# EAGLE library part CMOD_A7 (library FPGA_FOC_lib)
15T and 35T
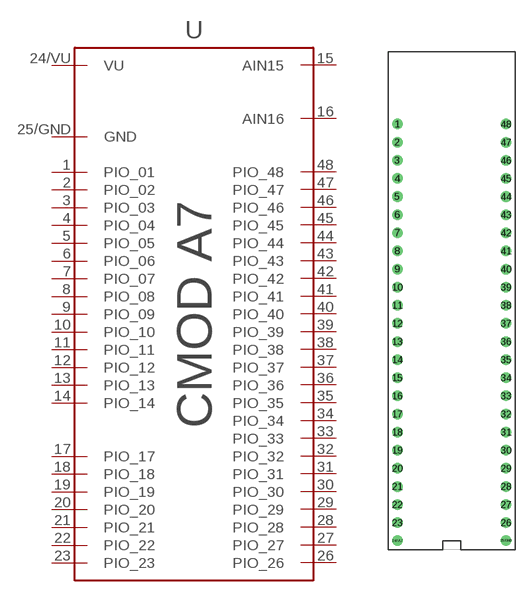
[diagram p3: symbol with the pads of CMOD_A7_DIP; footprint CMOD_A7_DIP]

Designator prefix U

## CMOD_A7  [CMOD_A7_DIP]
1  PIO_01
2  PIO_02
3  PIO_03
4  PIO_04
5  PIO_05
6  PIO_06
7  PIO_07
8  PIO_08
9  PIO_09
10  PIO_10
11  PIO_11
12  PIO_12
13  PIO_13
14  PIO_14
15  AIN15
16  AIN16
17  PIO_17
18  PIO_18
19  PIO_19
20  PIO_20
21  PIO_21
22  PIO_22
23  PIO_23
24/VU  VU
25/GND  GND
26  PIO_26
27  PIO_27
28  PIO_28
29  PIO_29
30  PIO_30
31  PIO_31
32  PIO_32
33  PIO_33
34  PIO_34
35  PIO_35
36  PIO_36
37  PIO_37
38  PIO_38
39  PIO_39
40  PIO_40
41  PIO_41
42  PIO_42
43  PIO_43
44  PIO_44
45  PIO_45
46  PIO_46
47  PIO_47
48  PIO_48

## Footprint CMOD_A7_DIP (pad centres in mm)
drill 0.965: 1 -7.62,27.94; 2 -7.62,25.4; 3 -7.62,22.86; 4 -7.62,20.32; 5 -7.62,17.78; 6 -7.62,15.24; 7 -7.62,12.7; 8 -7.62,10.16; 9 -7.62,7.62; 10 -7.62,5.08; 11 -7.62,2.54; 12 -7.62,0; 13 -7.62,-2.54; 14 -7.62,-5.08; 15 -7.62,-7.62; 16 -7.62,-10.16; 17 -7.62,-12.7; 18 -7.62,-15.24; 19 -7.62,-17.78; 20 -7.62,-20.32; 21 -7.62,-22.86; 22 -7.62,-25.4; 23 -7.62,-27.94; 24/VU -7.62,-30.48; 25/GND 7.62,-30.48; 26 7.62,-27.94; 27 7.62,-25.4; 28 7.62,-22.86; 29 7.62,-20.32; 30 7.62,-17.78; 31 7.62,-15.24; 32 7.62,-12.7; 33 7.62,-10.16; 34 7.62,-7.62; 35 7.62,-5.08; 36 7.62,-2.54; 37 7.62,0; 38 7.62,2.54; 39 7.62,5.08; 40 7.62,7.62; 41 7.62,10.16; 42 7.62,12.7; 43 7.62,15.24; 44 7.62,17.78; 45 7.62,20.32; 46 7.62,22.86; 47 7.62,25.4; 48 7.62,27.94